# EAGLE library part 634008137221 (library 632723100011_Eagle_WR-USB_rev19b)
WR-MJ Horizontal Plastic SMT 8P8C Modular Jack Tab Down, 8 Pins=>Code : Con_I-O_MJ-H_Plastic_Down_634008137221 <http://katalog.we-online.de/media/images/eican/Con_I-O_MJ-H_Plastic_Down_634008137221_pf2.jpg> Details see: http://katalog.we-online.de/en/em/MJ_SMT_HORIZONTAL_PLASTIC_8P8C_TAB_DOWN/634008137221 Created 2014-07-10, Karrer Zheng 2014 (C) Würth Elektronik
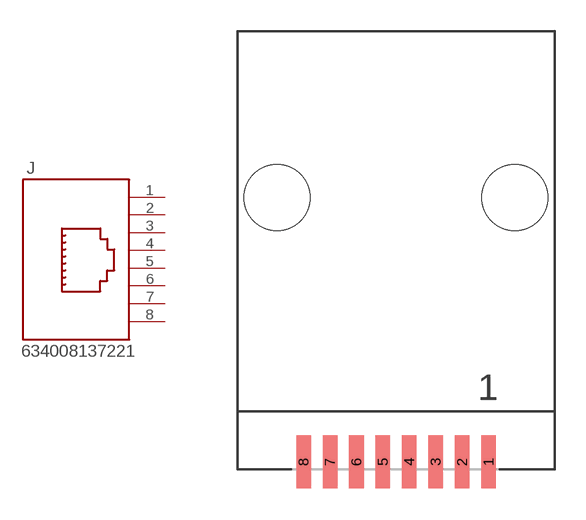
[diagram p135: symbol with the pads of 634008137221; footprint 634008137221]

Designator prefix J

## 634008137221  [634008137221]
1  8  pas
2  7  pas
3  6  pas
4  5  pas
5  4  pas
6  3  pas
7  2  pas
8  1  pas

## Footprint 634008137221 (pad centres in mm)
WR-MJ Horizontal Plastic SMT 8P8C Modular Jack Tab Down, 8 Pins
smd 0.7 x 2.54: 1 4.445,0; 2 3.175,0; 3 1.905,0; 4 0.635,0; 5 -0.635,0; 6 -1.905,0; 7 -3.175,0; 8 -4.445,0
hole 3.17 at 5.715,12.7
hole 3.17 at -5.715,12.7